# EAGLE library part ATMEGA32U4 (library atmel)
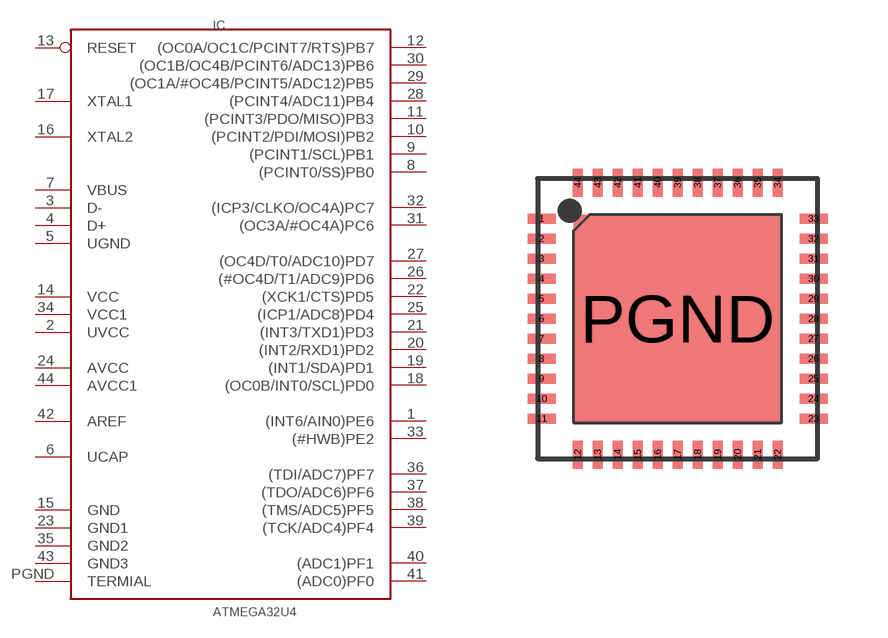
[diagram p2: symbol with the pads of QFN44; footprint QFN44]

Designator prefix IC

## ATMEGA32U4_QFN44  [QFN44]
1  (INT6/AIN0)PE6
2  UVCC  pwr
3  D-
4  D+
5  UGND  pwr
6  UCAP  pwr
7  VBUS  pwr
8  (PCINT0/SS)PB0
9  (PCINT1/SCL)PB1
10  (PCINT2/PDI/MOSI)PB2
11  (PCINT3/PDO/MISO)PB3
12  (OC0A/OC1C/PCINT7/RTS)PB7
13  RESET  in
14  VCC  pwr
15  GND  pwr
16  XTAL2  in
17  XTAL1  in
18  (OC0B/INT0/SCL)PD0
19  (INT1/SDA)PD1
20  (INT2/RXD1)PD2
21  (INT3/TXD1)PD3
22  (XCK1/CTS)PD5
23  GND1  pwr
24  AVCC  pwr
25  (ICP1/ADC8)PD4
26  (#OC4D/T1/ADC9)PD6
27  (OC4D/T0/ADC10)PD7
28  (PCINT4/ADC11)PB4
29  (OC1A/#OC4B/PCINT5/ADC12)PB5
30  (OC1B/OC4B/PCINT6/ADC13)PB6
31  (OC3A/#OC4A)PC6
32  (ICP3/CLKO/OC4A)PC7
33  (#HWB)PE2
34  VCC1  pwr
35  GND2  pwr
36  (TDI/ADC7)PF7
37  (TDO/ADC6)PF6
38  (TMS/ADC5)PF5
39  (TCK/ADC4)PF4
40  (ADC1)PF1
41  (ADC0)PF0
42  AREF  pwr
43  GND3  pwr
44  AVCC1  pwr
PGND  TERMIAL  pwr

## Footprint QFN44 (pad centres in mm)
smd 0.7 x 0.25: 1 -3.4,2.5; 2 -3.4,2; 3 -3.4,1.5; 4 -3.4,1; 5 -3.4,0.5; 6 -3.4,0; 7 -3.4,-0.5; 8 -3.4,-1; 9 -3.4,-1.5; 10 -3.4,-2; 11 -3.4,-2.5; 23 3.4,-2.5; 24 3.4,-2; 25 3.4,-1.5; 26 3.4,-1; 27 3.4,-0.5; 28 3.4,0; 29 3.4,0.5; 30 3.4,1; 31 3.4,1.5; 32 3.4,2; 33 3.4,2.5
smd 0.25 x 0.7: 12 -2.5,-3.4; 13 -2,-3.4; 14 -1.5,-3.4; 15 -1,-3.4; 16 -0.5,-3.4; 17 0,-3.4; 18 0.5,-3.4; 19 1,-3.4; 20 1.5,-3.4; 21 2,-3.4; 22 2.5,-3.4; 34 2.5,3.4; 35 2,3.4; 36 1.5,3.4; 37 1,3.4; 38 0.5,3.4; 39 0,3.4; 40 -0.5,3.4; 41 -1,3.4; 42 -1.5,3.4; 43 -2,3.4; 44 -2.5,3.4
smd 5.2 x 5.2: PGND 0,0